# Altium integrated library ME3616.IntLib: 18 symbols
Pins are listed as number, name and electrical type; pins without a type are passive.

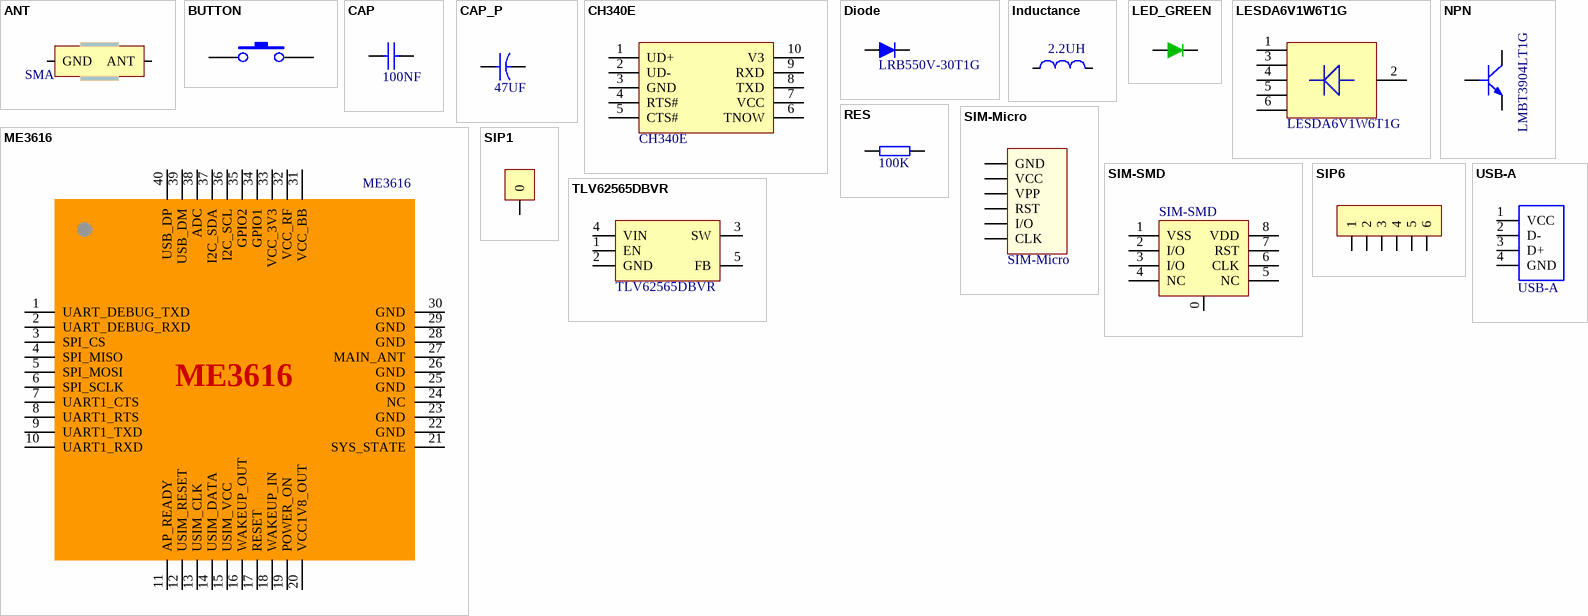
[diagram p0: symbols ANT to USB-A]

## ANT
designator P?, comment SMA
footprint IPX (Footprint not found)
footprint SMA_SMD_3D_GSM002_01
pins: ANT, GND

## BUTTON
designator P?, comment BUTTON_3x6x2.5  (value not drawn)
footprint BUTTON_3x6x2.5 (Footprint not found)
footprint BUTTON_3x4x2_3D
pins: 1, 2

## CAP
designator P?, comment 100NF
capacitance
footprint 0603_C
footprint 0402 (Footprint not found)
footprint 1206 (Footprint not found)
pins: 1, 2

## CAP_P
designator P?, comment 47UF
TAJA476K006RNJ
footprint 3528 (Footprint not found)
footprint 7343 (Footprint not found)
footprint CAP_6x6 (Footprint not found)
footprint CAP_10x10 (Footprint not found)
footprint 1206_3D
pins: 1, 2

## CH340E
designator P?
USB转UART芯片
footprint MSOP-10_3D
pins: 1 UD+ (power), 2 UD- (power), 3 GND, 4 RTS# (power), 5 CTS# (power), 6 TNOW (power), 7 VCC, 8 TXD, 9 RXD, 10 V3

## Diode
designator P?, comment LRB550V-30T1G
Diode
footprint SS34 (Footprint not found)
footprint SOD-123 (Footprint not found)
footprint SOD-323_3D (Footprint not found)
pins: 1, 2

## Inductance
designator P?, comment 2.2UH
BWVS004040182R2
footprint 0603
footprint 0402
footprint BWVS00606045
footprint BWVS00404018_3D_4x4 (Footprint not found)
pins: 1, 2

## LED_GREEN
designator P?, comment LED  (value not drawn)
LED_GREEN
footprint 0603_LED_Green
pins: 1 A, 2 K

## LESDA6V1W6T1G
designator P?
footprint SOT363 (Footprint not found)
footprint SOT-363_3D
pins: 1, 2 (power), 3, 4, 5 (power), 6 (power)

## ME3616
designator P?
footprint ME3616_3D_01
pins: 1 UART_DEBUG_TXD, 2 UART_DEBUG_RXD, 3 SPI_CS, 4 SPI_MISO, 5 SPI_MOSI, 6 SPI_SCLK, 7 UART1_CTS, 8 UART1_RTS, 9 UART1_TXD, 10 UART1_RXD, 11 AP_READY, 12 USIM_RESET, 13 USIM_CLK, 14 USIM_DATA, 15 USIM_VCC, 16 WAKEUP_OUT, 17 RESET, 18 WAKEUP_IN, 19 POWER_ON, 20 VCC1V8_OUT, 21 SYS_STATE, 22 GND, 23 GND, 24 NC, 25 GND, 26 GND, 27 MAIN_ANT, 28 GND, 29 GND, 30 GND, 31 VCC_BB, 32 VCC_RF, 33 VCC_3V3, 34 GPIO1, 35 GPIO2, 36 I2C_SCL, 37 I2C_SDA, 38 ADC, 39 USB_DM, 40 USB_DP

## NPN
designator P?, comment LMBT3904LT1G
footprint SOT23-3_3D
pins: 1 B, 2 E, 3 C

## RES
designator P?, comment 100K
resistance
footprint 0603_R
footprint 0402 (Footprint not found)
pins: 1, 2

## SIM-Micro
designator P?
footprint SIM-Micro_3D
pins: 1 GND, 2 VCC, 3 VPP, 4 RST, 5 I/O, 6 CLK

## SIM-SMD
designator P?
footprint SIM-SMD_3D (Footprint not found)
pins: 0 GND, 1 VSS (power), 2 I/O (power), 3 I/O (power), 4 NC (power), 5 NC (power), 6 CLK (power), 7 RST (power), 8 VDD

## SIP1
designator P?  (value not drawn)
footprint 3MM
footprint SIP1-C (Footprint not found)
footprint 2MM
pins: 0

## SIP6
designator P?  (value not drawn)
footprint SIP6 (Footprint not found)
footprint SIP6_1.25_T (Footprint not found)
footprint SIP6-2.54T
pins: 1, 2, 3, 4, 5, 6

## TLV62565DBVR
designator P?
footprint SOT23-5_3D (Footprint not found)
pins: 1 EN (power), 2 GND (power), 3 SW (power), 4 VIN (power), 5 FB (power)

## USB-A
designator P?
footprint USB-A_3D_01
pins: 1 VCC, 2 D-, 3 D+, 4 GND